# EAGLE library part MAX3232CPWR (library Hardware)
RS-232 Line Driver/Receiver
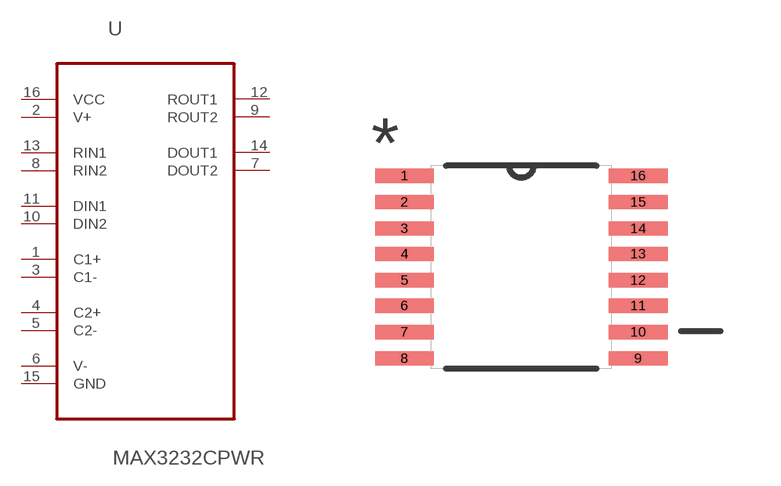
[diagram p3: symbol with the pads of SOP65P640X120-16N; footprint SOP65P640X120-16N]

Designator prefix U

## MAX3232CPWR (MPN: MAX3232CPWR; OC_FARNELL: 1460372; OC_NEWARK: 75C1004; PACKAGE: TSSOP-16; SUPPLIER: Texas Instruments)  [SOP65P640X120-16N]
1  C1+  pas
2  V+  pwr
3  C1-  pas
4  C2+  pas
5  C2-  pas
6  V-  pwr
7  DOUT2  out
8  RIN2  in
9  ROUT2  out
10  DIN2  in
11  DIN1  in
12  ROUT1  out
13  RIN1  in
14  DOUT1  out
15  GND  pas
16  VCC  pwr

## Footprint SOP65P640X120-16N (pad centres in mm)
smd 1.473 x 0.356: 1 -2.921,2.286; 2 -2.921,1.626; 3 -2.921,0.965; 4 -2.921,0.33; 5 -2.921,-0.33; 6 -2.921,-0.965; 7 -2.921,-1.626; 8 -2.921,-2.286; 9 2.921,-2.286; 10 2.921,-1.626; 11 2.921,-0.965; 12 2.921,-0.33; 13 2.921,0.33; 14 2.921,0.965; 15 2.921,1.626; 16 2.921,2.286